# Altium footprint library TQFP-32_5x5x05P.PcbLib: 1 footprints
Each footprint in its own frame and in the unit in brackets; x right, y up, seen from the top. Pads: shape width x height; smd on the part's side, far side on the other; paste and mask are expansions set on the pad; w line width, h text height; cw(c..) or ccw(c..) is an arc to the next point about the centre after c.
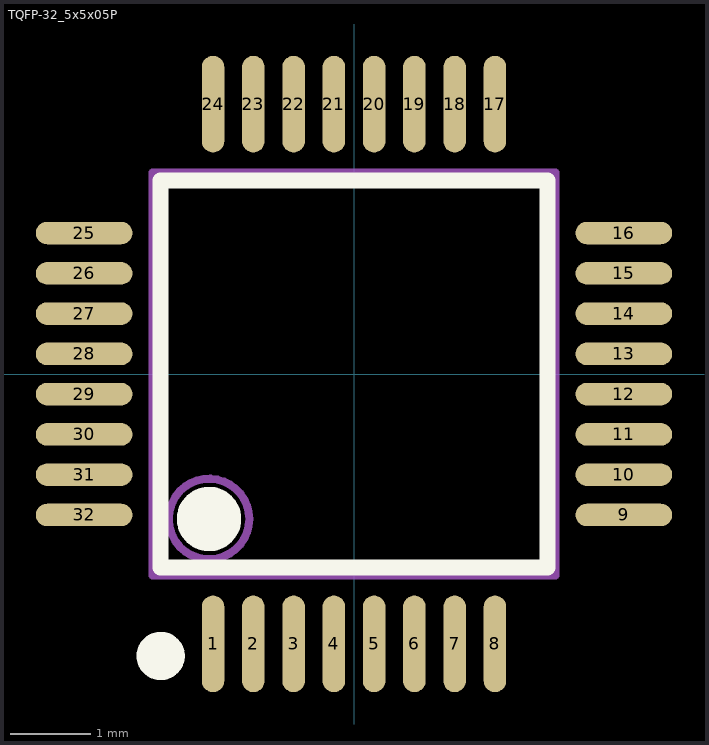
[diagram p0: the footprint, top view; thin cyan lines are the x and y axes]

## TQFP-32_5x5x05P [mm]
pads (32):
  oval 0.28x1.2 smd mask+0.051: 1(-1.75,-3.35) 2(-1.25,-3.35) 3(-0.75,-3.35) 4(-0.25,-3.35) 5(0.25,-3.35) 6(0.75,-3.35) 7(1.25,-3.35) 8(1.75,-3.35) 17(1.75,3.35) 18(1.25,3.35) 19(0.75,3.35) 20(0.25,3.35) 21(-0.25,3.35) 22(-0.75,3.35) 23(-1.25,3.35) 24(-1.75,3.35)
  oval 1.2x0.28 smd mask+0.051: 9(3.35,-1.75) 10(3.35,-1.25) 11(3.35,-0.75) 12(3.35,-0.25) 13(3.35,0.25) 14(3.35,0.75) 15(3.35,1.25) 16(3.35,1.75) 25(-3.35,1.75) 26(-3.35,1.25) 27(-3.35,0.75) 28(-3.35,0.25) 29(-3.35,-0.25) 30(-3.35,-0.75) 31(-3.35,-1.25) 32(-3.35,-1.75)
Top Overlay:
  circle w0.4: c-1.8,-1.8 r0.2
  circle w0.3: c-2.4,-3.5 r0.15
  lines w0.2: -2.4,-2.4 2.4,-2.4 2.4,2.4 -2.4,2.4 -2.4,-2.4
Mechanical 13:
  circle w0.1: c-1.8,-1.8 r0.5
  lines w0.1: -2.5,-2.5 2.5,-2.5 2.5,2.5 -2.5,2.5 -2.5,-2.5